# EAGLE library part ATMEGA164A/PA/324A/PA/644A/PA/1284/P (library BaseApp)
Digikey No :- __ATMEGA1284-AU-ND__ 44TQFP __ATMEGA1284-MU-ND__ 44VQFN
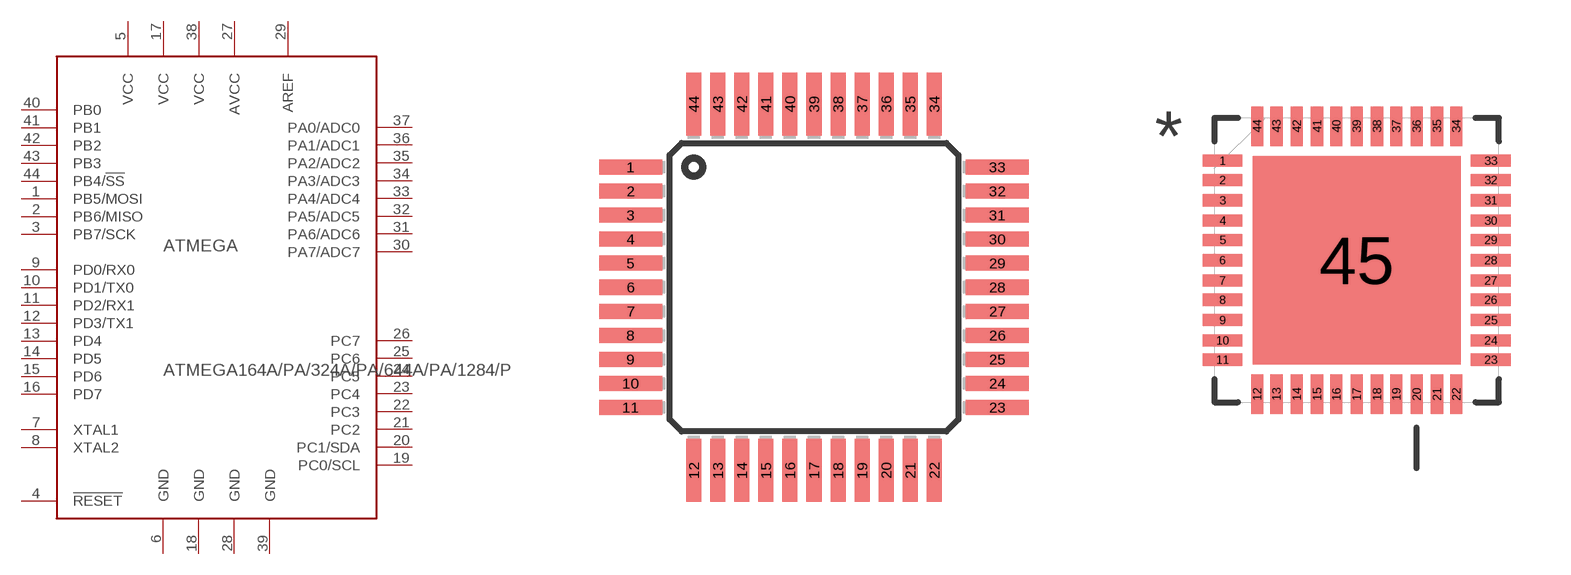
[diagram p69: symbol with the pads of 44TQFP; footprints 44TQFP, VQFN-44]

Designator prefix ATMEGA

## ATMEGA164A/PA/324A/PA/644A/PA/1284/P  [44TQFP]
1  PB5/MOSI
2  PB6/MISO
3  PB7/SCK
4  !RESET
5  VCC
6  GND
7  XTAL1
8  XTAL2
9  PD0/RX0
10  PD1/TX0
11  PD2/RX1
12  PD3/TX1
13  PD4
14  PD5
15  PD6
16  PD7
17  VCC
18  GND
19  PC0/SCL
20  PC1/SDA
21  PC2
22  PC3
23  PC4
24  PC5
25  PC6
26  PC7
27  AVCC
28  GND
29  AREF
30  PA7/ADC7
31  PA6/ADC6
32  PA5/ADC5
33  PA4/ADC4
34  PA3/ADC3
35  PA2/ADC2
36  PA1/ADC1
37  PA0/ADC0
38  VCC
39  GND
40  PB0
41  PB1
42  PB2
43  PB3
44  PB4/!SS

## ATMEGA164A/PA/324A/PA/644A/PA/1284/P-  [VQFN-44]
1  PB5/MOSI
2  PB6/MISO
3  PB7/SCK
4  !RESET
5  VCC
6  GND
7  XTAL2
8  XTAL1
9  PD0/RX0
10  PD1/TX0
11  PD2/RX1
12  PD3/TX1
13  PD4
14  PD5
15  PD6
16  PD7
17  VCC
18  GND
19  PC0/SCL
20  PC1/SDA
21  PC2
22  PC3
23  PC4
24  PC5
25  PC6
26  PC7
27  AVCC
28  GND
29  AREF
30  PA7/ADC7
31  PA6/ADC6
32  PA5/ADC5
33  PA4/ADC4
34  PA3/ADC3
35  PA2/ADC2
36  PA1/ADC1
37  PA0/ADC0
38  VCC
39  GND
40  PB0
41  PB1
42  PB2
43  PB3
44  PB4/!SS

## Footprint 44TQFP (pad centres in mm)
smd 2.1 x 0.5: 1 -6.1,4; 2 -6.1,3.2; 3 -6.1,2.4; 4 -6.1,1.6; 5 -6.1,0.8; 6 -6.1,0; 7 -6.1,-0.8; 8 -6.1,-1.6; 9 -6.1,-2.4; 10 -6.1,-3.2; 11 -6.1,-4; 23 6.1,-4; 24 6.1,-3.2; 25 6.1,-2.4; 26 6.1,-1.6; 27 6.1,-0.8; 28 6.1,0; 29 6.1,0.8; 30 6.1,1.6; 31 6.1,2.4; 32 6.1,3.2; 33 6.1,4
smd 0.5 x 2.1: 12 -4,-6.1; 13 -3.2,-6.1; 14 -2.4,-6.1; 15 -1.6,-6.1; 16 -0.8,-6.1; 17 0,-6.1; 18 0.8,-6.1; 19 1.6,-6.1; 20 2.4,-6.1; 21 3.2,-6.1; 22 4,-6.1; 34 4,6.1; 35 3.2,6.1; 36 2.4,6.1; 37 1.6,6.1; 38 0.8,6.1; 39 0,6.1; 40 -0.8,6.1; 41 -1.6,6.1; 42 -2.4,6.1; 43 -3.2,6.1; 44 -4,6.1

## Footprint VQFN-44 (pad centres in mm)
smd 0.991 x 0.305: 1 -3.353,2.489; 2 -3.353,2.007; 3 -3.353,1.499; 4 -3.353,0.991; 5 -3.353,0.508; 6 -3.353,0; 7 -3.353,-0.508; 8 -3.353,-0.991; 9 -3.353,-1.499; 10 -3.353,-2.007; 11 -3.353,-2.489; 23 3.353,-2.489; 24 3.353,-2.007; 25 3.353,-1.499; 26 3.353,-0.991; 27 3.353,-0.508; 28 3.353,0; 29 3.353,0.508; 30 3.353,0.991; 31 3.353,1.499; 32 3.353,2.007; 33 3.353,2.489
smd 0.305 x 0.991: 12 -2.489,-3.353; 13 -2.007,-3.353; 14 -1.499,-3.353; 15 -0.991,-3.353; 16 -0.508,-3.353; 17 0,-3.353; 18 0.508,-3.353; 19 0.991,-3.353; 20 1.499,-3.353; 21 2.007,-3.353; 22 2.489,-3.353; 34 2.489,3.353; 35 2.007,3.353; 36 1.499,3.353; 37 0.991,3.353; 38 0.508,3.353; 39 0,3.353; 40 -0.508,3.353; 41 -0.991,3.353; 42 -1.499,3.353; 43 -2.007,3.353; 44 -2.489,3.353
smd 5.207 x 5.207: 45 0,0